# Altium schematic symbol library ARDUINO_NANO.SchLib: 1 symbol
Pins are listed as number, name and electrical type; pins without a type are passive.

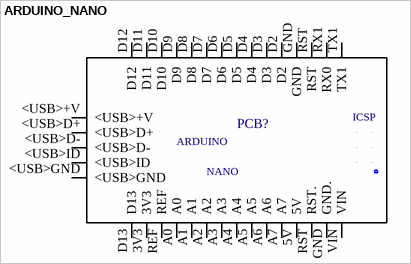
[diagram p0: symbol ARDUINO_NANO]

## ARDUINO_NANO
designator PCB?  (value not drawn)
Dev.kit: Arduino; UART; ICSP, USB B mini, pin strips; MP: ARDUINO NANO; Package: None; Price: 22.14 USD; MF: Arduino; Availability: Unavailable; Value: *
footprint ARDUINO_NANO_ARDUINO_NANO(Primary)
pins: 3V3 (io), 5V (io), 5V 5V. (io), <USB>+V (io), <USB>D+ (io), <USB>D- (io), <USB>GND (io), <USB>ID (io), A0 (io), A1 (io), A2 (io), A3 (io), A4 (io), A5 (io), A6 (io), A7 (io), D2 (io), D3 (io), D4 (io), D5 (io), D6 (io), D7 (io), D8 (io), D9 (io), D10 (io), D11 (io), D12 (io), D13 (io), GND GND. (io), GND (io), GND_ (io), MISO (io), MOSI (io), REF (io), RESET RESET.. (io), RST RST. (io), RST (io), RX1 RX0 (io), SCK (io), TX1 (io), VIN (io)
text: ICSP; ARDUINO; NANO